# Altium footprint library lab_7_footprints.PcbLib: 8 footprints
Each footprint in its own frame and in the unit in brackets; x right, y up, seen from the top. Pads: shape width x height; smd on the part's side, far side on the other; paste and mask are expansions set on the pad; w line width, h text height; cw(c..) or ccw(c..) is an arc to the next point about the centre after c.
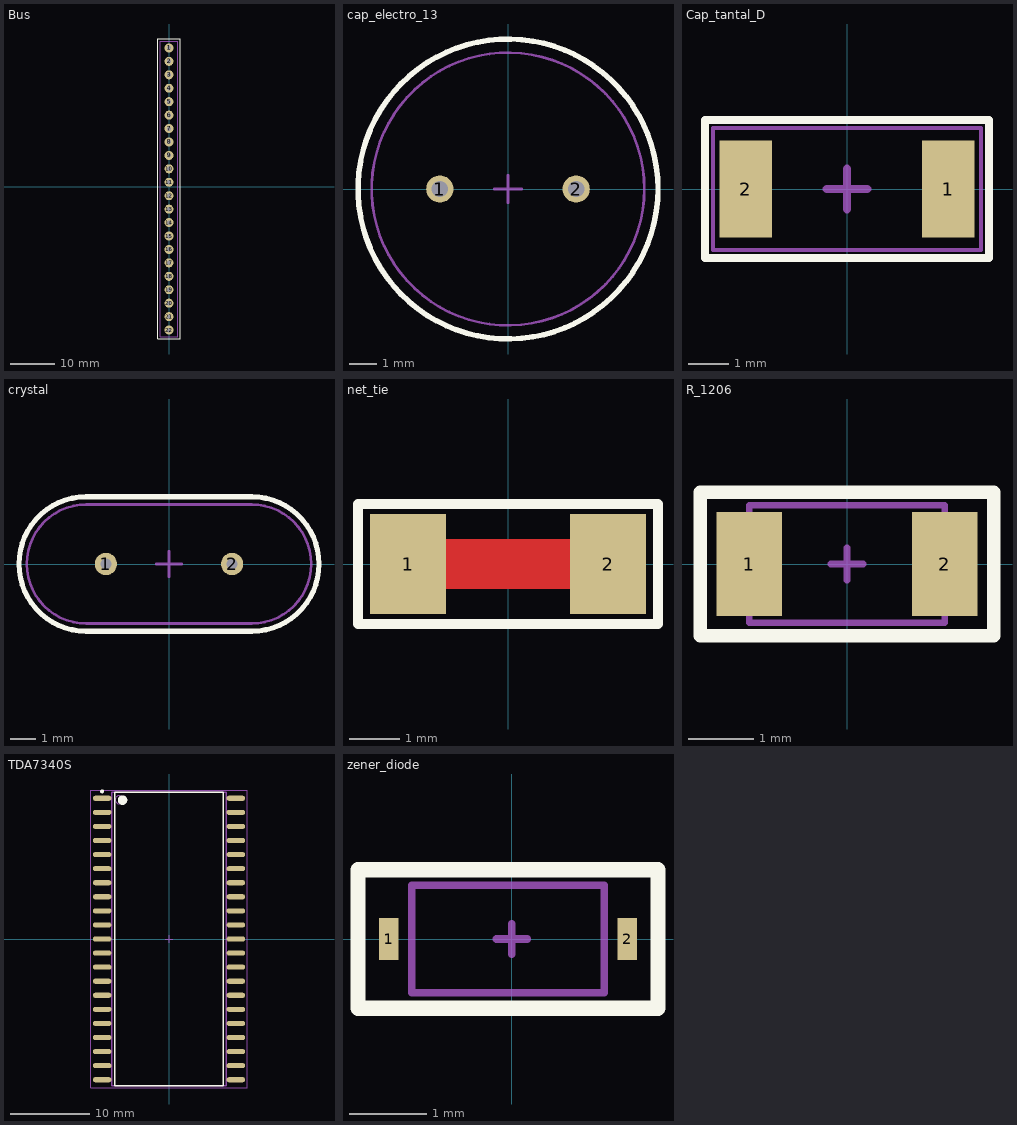
[diagram p0: the footprints below, top view; thin cyan lines are the x and y axes]

## Bus [mm]
pads (22):
  round 2 hole 1: 1(0,31) 2(0,28) 3(0,25) 4(0,22) 5(0,19) 6(0,16) 7(0,13) 8(0,10) 9(0,7) 10(0,4) 11(0,1) 12(0,-2) 13(0,-5) 14(0,-8) 15(0,-11) 16(0,-14) 17(0,-17) 18(0,-20) 19(0,-23) 20(0,-26) 21(0,-29) 22(0,-32)
Top Overlay:
  lines w0.2: -2.5,-34 2.5,-34 2.5,33 -2.5,33 -2.5,-34
3D body:
  lines w0.1: -2,-33.5 -2,32.5 2,32.5 2,-33.5 -2,-33.5

## cap_electro_13 [mm]
pads (2):
  round 1 hole 0.6: 1(-2.5,0) 2(2.5,0)
Top Overlay:
  circle w0.2: c0,0 r5.5
3D body:
  circle w0.1: c0,0 r5
Mechanical 15:
  circle w0.1: c0,0 r5.5
  lines w0.1: -0.5,0 0.5,0 ; 0,-0.5 0,0.5

## Cap_tantal_D [mm]
pads (2):
  rect 1.3x2.4 smd: 1(2.5,0) 2(-2.5,0)
Top Overlay:
  lines w0.2: -3.5,-1.7 3.5,-1.7 3.5,1.7 -3.5,1.7 -3.5,-1.7
3D body:
  lines w0.1: -3.3,-1.5 3.3,-1.5 3.3,1.5 -3.3,1.5 -3.3,-1.5
Mechanical 15:
  lines w0.1: -3.5,-1.7 3.5,-1.7 3.5,1.7 -3.5,1.7 -3.5,-1.7
  lines w0.2: -0.5,0 0.5,0 ; 0,-0.5 0,0.5

## crystal [mm]
pads (2):
  round 0.86 hole 0.43: 1(-2.44,0) 2(2.44,0)
Top Overlay:
  lines w0.2: -3.2,-2.6 cw(c-3.2,0) -3.2,2.6 3.2,2.6 cw(c3.2,0) 3.2,-2.6 -3.2,-2.6
3D body:
  lines w0.1: -3.2,-2.3 cw(c-3.2,0) -3.2,2.3 3.2,2.3 cw(c3.2,0) 3.2,-2.3 -3.2,-2.3
Mechanical 15:
  lines w0.1: -0.5,0 0.5,0 ; 0,-0.5 0,0.5 ; -3.2,-2.6 cw(c-3.2,0) -3.2,2.6 3.2,2.6 cw(c3.2,0) 3.2,-2.6 -3.2,-2.6

## net_tie [mm]
pads (2):
  rect 1.524x2 smd: 1(-2,0) 2(2,0)
Top Layer:
  rectangle: -1.3,-0.5 1.3,0.5
Top Overlay:
  lines w0.2: -3,-1.2 3,-1.2 3,1.2 -3,1.2 -3,-1.2

## R_1206 [mm]
pads (2):
  rect 1x1.6 smd: 1(-1.5,0) 2(1.5,0)
Top Overlay:
  lines w0.2: -2.25,-1.1 2.25,-1.1 2.25,1.1 -2.25,1.1 -2.25,-1.1
3D body:
  lines w0.1: -1.5,-0.9 1.5,-0.9 1.5,0.9 -1.5,0.9 -1.5,-0.9
Mechanical 15:
  lines w0.1: -0.25,0 0.25,0 ; 0,-0.25 0,0.25 ; -2.25,-1.1 -2.25,1.1 2.25,1.1 2.25,-1.1 -2.25,-1.1

## TDA7340S [mm] "SOP, 42-Leads, Body 36,83x13,59mm, Pitch 1,78mm, IPC Medium Density"
height 5.08
pads (42):
  oval 2.35x0.65 smd: 1(-8.45,17.78) 2(-8.45,16.002) 3(-8.45,14.224) 4(-8.45,12.446) 5(-8.45,10.668) 6(-8.45,8.89) 7(-8.45,7.112) 8(-8.45,5.334) 9(-8.45,3.556) 10(-8.45,1.778) 11(-8.45,0) 12(-8.45,-1.778) 13(-8.45,-3.556) 14(-8.45,-5.334) 15(-8.45,-7.112) 16(-8.45,-8.89) 17(-8.45,-10.668) 18(-8.45,-12.446) 19(-8.45,-14.224) 20(-8.45,-16.002) 21(-8.45,-17.78) 22(8.45,-17.78) 23(8.45,-16.002) 24(8.45,-14.224) 25(8.45,-12.446) 26(8.45,-10.668) 27(8.45,-8.89) 28(8.45,-7.112) 29(8.45,-5.334) 30(8.45,-3.556) 31(8.45,-1.778) 32(8.45,0) 33(8.45,1.778) 34(8.45,3.556) 35(8.45,5.334) 36(8.45,7.112) 37(8.45,8.89) 38(8.45,10.668) 39(8.45,12.446) 40(8.45,14.224) 41(8.45,16.002) 42(8.45,17.78)
Top Overlay:
  circle w0.6: c-5.875,17.55 r0.3
  circle w0.25: c-8.45,18.655 r0.125
  lines w0.2: -6.875,-18.55 6.875,-18.55 6.875,18.55 -6.875,18.55 -6.875,-18.55
3D body:
  circle w0.1: c-6.3,17.6 r0.5
  lines w0.2: -7.25,-18.55 7.25,-18.55 7.25,18.55 -7.25,18.55 -7.25,-18.55
Mechanical 15:
  lines w0.05: -9.875,-18.8 9.875,-18.8 9.875,18.8 -9.875,18.8 -9.875,-18.8
  lines w0.1: -0.5,0 0.5,0 ; 0,-0.5 0,0.5
3D body: height 5.08, standoff 0.51, extent -7.25,-18.55 7.25,18.55

## zener_diode [mm]
pads (2):
  rect 0.25x0.55 smd: 1(-1.6,0) 2(1.5,0)
Top Overlay:
  lines w0.2: -2,-0.9 -2,0.9 1.9,0.9 1.9,-0.9 -2,-0.9
3D body:
  lines w0.1: -1.3,-0.7 -1.3,0.7 1.2,0.7 1.2,-0.7 -1.3,-0.7
Mechanical 15:
  lines w0.1: -0.2,0 0.2,0 ; 0,-0.2 0,0.2 ; -2,-0.9 1.9,-0.9 1.9,0.9 -2,0.9 -2,-0.9